# Altium footprint library AdapterBoardPCBLIB.PcbLib: 2 footprints
Each footprint in its own frame and in the unit in brackets; x right, y up, seen from the top. Pads: shape width x height; smd on the part's side, far side on the other; paste and mask are expansions set on the pad; w line width, h text height; cw(c..) or ccw(c..) is an arc to the next point about the centre after c.
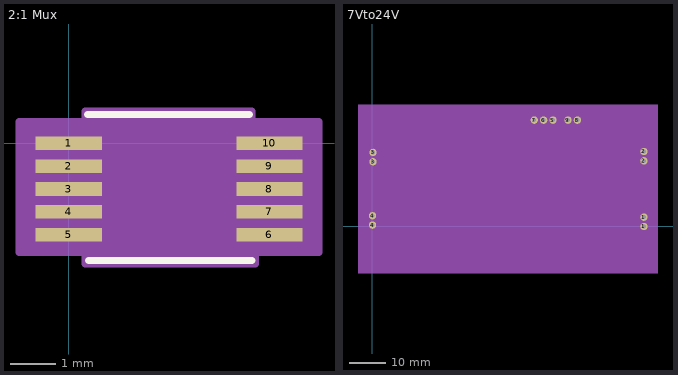
[diagram p0: the footprints below, top view; thin cyan lines are the x and y axes]

## 2:1 Mux [mm] "TS5A23157DGSR"
height 1.1
pads (10):
  rect 1.45x0.3 smd mask+0.05: 1(0,0) 2(0,-0.5) 3(0,-1) 4(0,-1.5) 5(0,-2) 6(4.4,-2) 7(4.4,-1.5) 8(4.4,-1) 9(4.4,-0.5) 10(4.4,0)
Top Overlay:
  lines w0.152: 0.406,0.635 3.962,0.635 ; 0.432,-2.565 4.013,-2.565
Mechanical 13:
  lines w0: 1.956,0.406 ccw(c2.261,0.406) 2.565,0.406
Mechanical 15:
  region: 0.356,-2.413 -1.092,-2.413 -1.092,0.457 0.356,0.457 0.356,0.711 4.013,0.711 4.013,0.457 5.461,0.457 5.461,-2.413 4.089,-2.413 4.089,-2.667 0.356,-2.667
  lines w0.152: -1.092,-2.388 0.356,-2.388 0.356,-2.642 4.089,-2.642 4.089,-2.388 5.486,-2.388 5.486,0.483 4.013,0.483 4.013,0.711 0.356,0.711 0.356,0.483 -1.092,0.483 -1.092,-2.388

## 7Vto24V [mm] "7V to 24 V converter"
height 1.575
pads (13):
  round 2 hole 1.02: 1(73.66,0) 1(73.66,2.54) 2(73.66,17.78) 2(73.66,20.32) 3(0.254,17.526) 3(0.254,20.066) 4(0.127,0.381) 4(0.127,2.921) 5(49.022,28.829) 6(46.482,28.829) 7(43.942,28.829) 8(55.626,28.829) 9(53.086,28.829)
Mechanical 15:
  region: 77.47,-12.7 77.47,33.02 -3.81,33.02 -3.81,-12.7
3D body: height 0.25, standoff 0, extent -3.175,-11.811 76.454,31.877